# Altium schematic symbol library modulewifi_esp.SchLib: 15 symbols
Pins are listed as number, name and electrical type; pins without a type are passive.

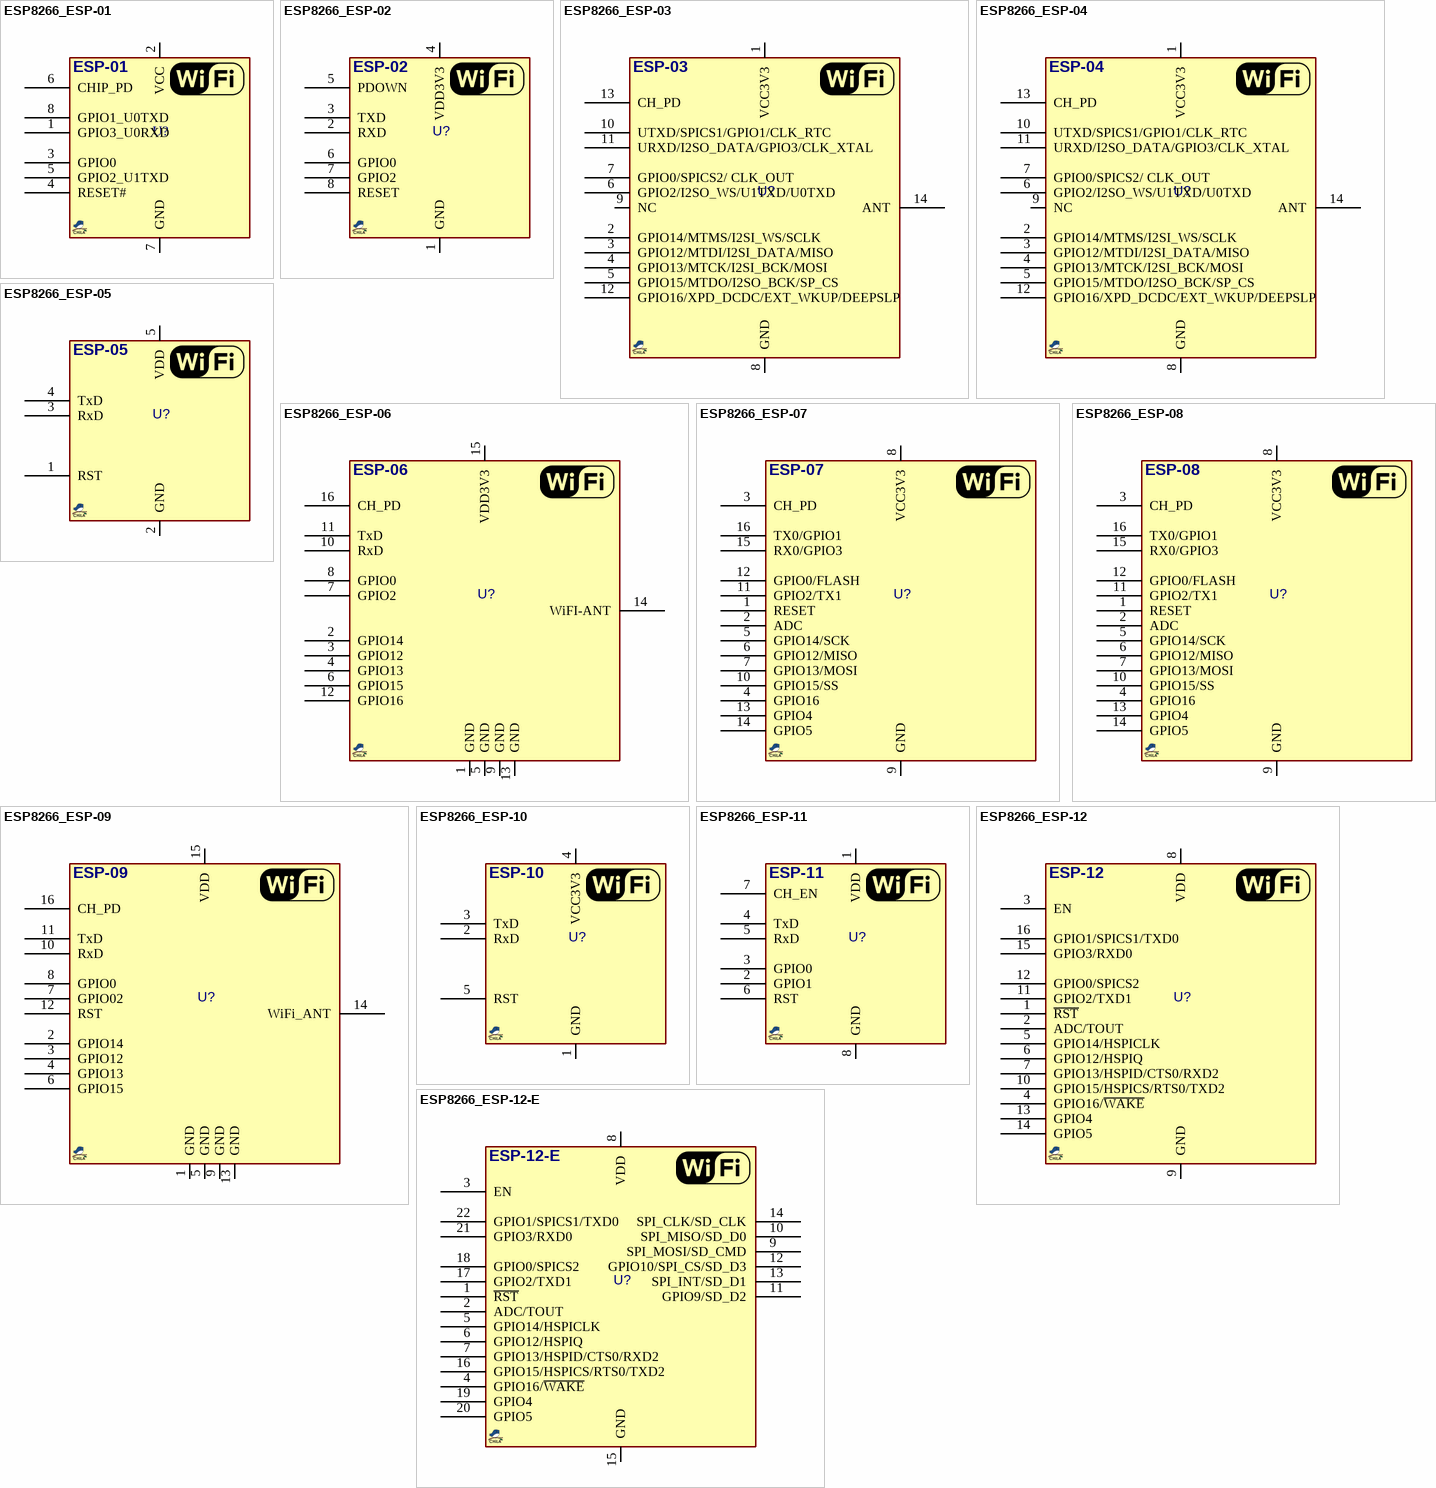
[diagram p0: symbols ESP8266_ESP-01 to ESP8266_ESP-12-E]

## ESP8266_ESP-01
designator U?, comment ESP-01  (value not drawn)
ESP8266 ESP-01 WiFi Module; MANF_P#: ESP-01; VALUE: ESP-01
footprint ESP8266_ESP01 (ESP8266 ESP-01 Wi07C)
pins: 1 GPIO3_U0RXD, 2 VCC, 3 GPIO0, 4 RESET#, 5 GPIO2_U1TXD, 6 CHIP_PD, 7 GND, 8 GPIO1_U0TXD

## ESP8266_ESP-02
designator U?, comment ESP-02  (value not drawn)
ESP8266 ESP-02 WiFi Module; MANF_P#: ESP-02; VALUE: ESP-02
footprint ESP8266_ESP02 (ESP8266 ESP-02)
pins: 1 GND, 2 RXD, 3 TXD, 4 VDD3V3, 5 PDOWN, 6 GPIO0, 7 GPIO2, 8 RESET

## ESP8266_ESP-03
designator U?, comment ESP-03  (value not drawn)
ESP8266 ESP-03 WiFi Module; MANF_P#: ESP-03; VALUE: ESP-03
footprint ESP8266_ESP03 (ESP8266 ESP-03)
pins: 1 VCC3V3, 2 GPIO14/MTMS/I2SI_WS/SCLK, 3 GPIO12/MTDI/I2SI_DATA/MISO, 4 GPIO13/MTCK/I2SI_BCK/MOSI, 5 GPIO15/MTDO/I2SO_BCK/SP_CS, 6 GPIO2/I2SO_WS/U1TXD/U0TXD, 7 GPIO0/SPICS2/ CLK_OUT, 8 GND, 9 NC, 10 UTXD/SPICS1/GPIO1/CLK_RTC, 11 URXD/I2SO_DATA/GPIO3/CLK_XTAL, 12 GPIO16/XPD_DCDC/EXT_WKUP/DEEPSLP, 13 CH_PD, 14 ANT

## ESP8266_ESP-04
designator U?, comment ESP-04  (value not drawn)
ESP8266 ESP-04 WiFi Module; MANF_P#: ESP-04; VALUE: ESP-04
footprint ESP8266_ESP04 (ESP8266 ESP-04)
pins: 1 VCC3V3, 2 GPIO14/MTMS/I2SI_WS/SCLK, 3 GPIO12/MTDI/I2SI_DATA/MISO, 4 GPIO13/MTCK/I2SI_BCK/MOSI, 5 GPIO15/MTDO/I2SO_BCK/SP_CS, 6 GPIO2/I2SO_WS/U1TXD/U0TXD, 7 GPIO0/SPICS2/ CLK_OUT, 8 GND, 9 NC, 10 UTXD/SPICS1/GPIO1/CLK_RTC, 11 URXD/I2SO_DATA/GPIO3/CLK_XTAL, 12 GPIO16/XPD_DCDC/EXT_WKUP/DEEPSLP, 13 CH_PD, 14 ANT

## ESP8266_ESP-05
designator U?, comment ESP-05  (value not drawn)
ESP8266 ESP-05 WiFi Module; MANF_P#: ESP-05; VALUE: ESP-05
footprint ESP8266 ESP-05
pins: 1 RST, 2 GND, 3 RxD, 4 TxD, 5 VDD

## ESP8266_ESP-06
designator U?, comment ESP-06  (value not drawn)
ESP8266 ESP-06 WiFi Module; MANF_P#: ESP-06; VALUE: ESP-06
footprint ESP8266_ESP06 (ESP8266 ESP-06)
pins: 1 GND, 2 GPIO14, 3 GPIO12, 4 GPIO13, 5 GND, 6 GPIO15, 7 GPIO2, 8 GPIO0, 9 GND, 10 RxD, 11 TxD, 12 GPIO16, 13 GND, 14 WiFI-ANT, 15 VDD3V3, 16 CH_PD

## ESP8266_ESP-07
designator U?, comment ESP-07  (value not drawn)
ESP8266 ESP-07 WiFi Module; MANF_P#: ESP-07; VALUE: ESP-07
footprint ESP8266_ESP07 (ESP8266 ESP-07)
pins: 1 RESET, 2 ADC, 3 CH_PD, 4 GPIO16, 5 GPIO14/SCK, 6 GPIO12/MISO, 7 GPIO13/MOSI, 8 VCC3V3, 9 GND, 10 GPIO15/SS, 11 GPIO2/TX1, 12 GPIO0/FLASH, 13 GPIO4, 14 GPIO5, 15 RX0/GPIO3, 16 TX0/GPIO1

## ESP8266_ESP-08
designator U?, comment ESP-08  (value not drawn)
ESP8266 ESP-07 WiFi Module; MANF_P#: ESP-08; VALUE: ESP-08
footprint ESP8266_ESP07 (ESP8266 ESP-07)
pins: 1 RESET, 2 ADC, 3 CH_PD, 4 GPIO16, 5 GPIO14/SCK, 6 GPIO12/MISO, 7 GPIO13/MOSI, 8 VCC3V3, 9 GND, 10 GPIO15/SS, 11 GPIO2/TX1, 12 GPIO0/FLASH, 13 GPIO4, 14 GPIO5, 15 RX0/GPIO3, 16 TX0/GPIO1

## ESP8266_ESP-09
designator U?, comment ESP-09  (value not drawn)
ESP8266 ESP-09 WiFi Module; MANF_P#: ESP-09; VALUE: ESP-09
footprint ESP8266_ESP09 (ESP8266 ESP-09)
pins: 1 GND (power), 2 GPIO14, 3 GPIO12, 4 GPIO13, 5 GND (power), 6 GPIO15, 7 GPIO02, 8 GPIO0, 9 GND (power), 10 RxD, 11 TxD, 12 RST, 13 GND (power), 14 WiFi_ANT, 15 VDD (power), 16 CH_PD

## ESP8266_ESP-10
designator U?, comment ESP-10  (value not drawn)
ESP8266 ESP-10 WiFi Module; MANF_P#: ESP-10; VALUE: ESP-10
footprint ESP8266_ESP10 (ESP8266 ESP-10)
pins: 1 GND, 2 RxD, 3 TxD, 4 VCC3V3, 5 RST

## ESP8266_ESP-11
designator U?, comment ESP-11  (value not drawn)
ESP8266 ESP-11 WiFi Module; MANF_P#: ESP-11; VALUE: ESP-11
footprint ESP8266 ESP-11
pins: 1 VDD, 2 GPIO1, 3 GPIO0, 4 TxD, 5 RxD, 6 RST, 7 CH_EN, 8 GND

## ESP8266_ESP-12
designator U?, comment ESP-12  (value not drawn)
ESP8266 ESP-12 Wi-Fi Module; MANF_P#: ESP-12; VALUE: ESP-12
footprint ESP_12 (ESP-12 Wi-Fi Module by AI-Thinker)
pins: 1 ~{RST} "Reset", 2 ADC/TOUT "ADC Input Or TOUT Output", 3 EN "Chip enable", 4 GPIO16/~{WAKE} "GPIO16 or Deep-Sleep Wakeup", 5 GPIO14/HSPICLK "GPIO14 or SPI CLK", 6 GPIO12/HSPIQ "GPIO12 or SPIQ", 7 GPIO13/HSPID/CTS0/RXD2 "GPIO13 or SPID", 8 VDD "Power supply", 9 GND "Power ground", 10 GPIO15/HSPICS/RTS0/TXD2 "GPIO15 or SPICS", 11 GPIO2/TXD1 "GPIO2 or TX", 12 GPIO0/SPICS2 "GPIO0 or SPICS2", 13 GPIO4 "GPIO5", 14 GPIO5 "GPIO4", 15 GPIO3/RXD0 "GPIO3 or UART RXD", 16 GPIO1/SPICS1/TXD0 "GPIO1 or UART TXD"

## ESP8266_ESP-12-E
designator U?, comment ESP-12-E  (value not drawn)
ESP8266 ESP-12 Wi-Fi Module; DESC: ESP8266-EX; MANF_P#: ESP-12-E; VALUE: ESP-12-E
footprint ESP8266_ESP12E_THD (ESP8266 ESP-12-E YHD)
footprint ESP8266_ESP12E (ESP-12 Wi-Fi Module by AI-Thinker)
pins: 1 ~{RST} "Reset", 2 ADC/TOUT "ADC Input Or TOUT Output", 3 EN "Chip enable", 4 GPIO16/~{WAKE} "GPIO16 or Deep-Sleep Wakeup", 5 GPIO14/HSPICLK "GPIO14 or SPI CLK", 6 GPIO12/HSPIQ "GPIO12 or SPIQ", 7 GPIO13/HSPID/CTS0/RXD2 "GPIO13 or SPID", 8 VDD "Power supply", 9 SPI_MOSI/SD_CMD "GPIO14 or SPI CLK", 10 SPI_MISO/SD_D0 "GPIO12 or SPIQ", 11 GPIO9/SD_D2 "GPIO13 or SPID", 12 GPIO10/SPI_CS/SD_D3 "GPIO15 or SPICS", 13 SPI_INT/SD_D1 "GPIO2 or TX", 14 SPI_CLK/SD_CLK "GPIO0 or SPICS2", 15 GND "Power ground", 16 GPIO15/HSPICS/RTS0/TXD2 "GPIO15 or SPICS", 17 GPIO2/TXD1 "GPIO2 or TX", 18 GPIO0/SPICS2 "GPIO0 or SPICS2", 19 GPIO4 "GPIO5", 20 GPIO5 "GPIO4", 21 GPIO3/RXD0 "GPIO3 or UART RXD", 22 GPIO1/SPICS1/TXD0 "GPIO1 or UART TXD"

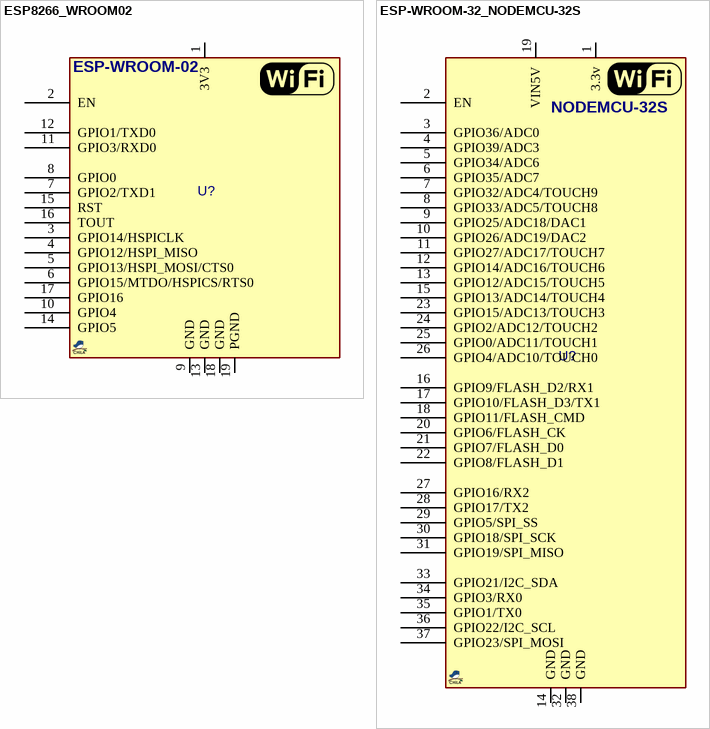
[diagram p1: symbols ESP8266_WROOM02 to ESP-WROOM-32_NODEMCU-32S]

## ESP8266_WROOM02
designator U?, comment ESP-WROOM  (value not drawn)
ESP8266 ESP-12 Wi-Fi Module; MANF: Espressif; MANF_P#: ESP-WROOM-02; VALUE: ESP-WROOM
footprint ESP8266_ESPW2 (ESP8266 ESP-WROOM-02 Wi-Fi Module)
pins: 1 3V3, 2 EN, 3 GPIO14/HSPICLK, 4 GPIO12/HSPI_MISO, 5 GPIO13/HSPI_MOSI/CTS0, 6 GPIO15/MTDO/HSPICS/RTS0, 7 GPIO2/TXD1, 8 GPIO0, 9 GND, 10 GPIO4, 11 GPIO3/RXD0, 12 GPIO1/TXD0, 13 GND, 14 GPIO5, 15 RST, 16 TOUT, 17 GPIO16, 18 GND, 19 PGND

## ESP-WROOM-32_NODEMCU-32S
designator U?, comment NODEMCU-32S  (value not drawn)
ESP-WROOM-32 Wi-Fi Module; MANF: Espressif; MANF_P#: NODEMCU-32S; VALUE: NODEMCU-32S
footprint NODEMCU32 (NodeMCU-32s ESP-32s, 48.26x25.4mm)
pins: 1 3.3v, 2 EN, 3 GPIO36/ADC0, 4 GPIO39/ADC3, 5 GPIO34/ADC6, 6 GPIO35/ADC7, 7 GPIO32/ADC4/TOUCH9, 8 GPIO33/ADC5/TOUCH8, 9 GPIO25/ADC18/DAC1, 10 GPIO26/ADC19/DAC2, 11 GPIO27/ADC17/TOUCH7, 12 GPIO14/ADC16/TOUCH6, 13 GPIO12/ADC15/TOUCH5, 14 GND, 15 GPIO13/ADC14/TOUCH4, 16 GPIO9/FLASH_D2/RX1, 17 GPIO10/FLASH_D3/TX1, 18 GPIO11/FLASH_CMD, 19 VIN5V, 20 GPIO6/FLASH_CK, 21 GPIO7/FLASH_D0, 22 GPIO8/FLASH_D1, 23 GPIO15/ADC13/TOUCH3, 24 GPIO2/ADC12/TOUCH2, 25 GPIO0/ADC11/TOUCH1, 26 GPIO4/ADC10/TOUCH0, 27 GPIO16/RX2, 28 GPIO17/TX2, 29 GPIO5/SPI_SS, 30 GPIO18/SPI_SCK, 31 GPIO19/SPI_MISO, 32 GND, 33 GPIO21/I2C_SDA, 34 GPIO3/RX0, 35 GPIO1/TX0, 36 GPIO22/I2C_SCL, 37 GPIO23/SPI_MOSI, 38 GND